# Altium footprint library Push Button_v12.PcbLib: 1 footprints
Each footprint in its own frame and in the unit in brackets; x right, y up, seen from the top. Pads: shape width x height; smd on the part's side, far side on the other; paste and mask are expansions set on the pad; w line width, h text height; cw(c..) or ccw(c..) is an arc to the next point about the centre after c.
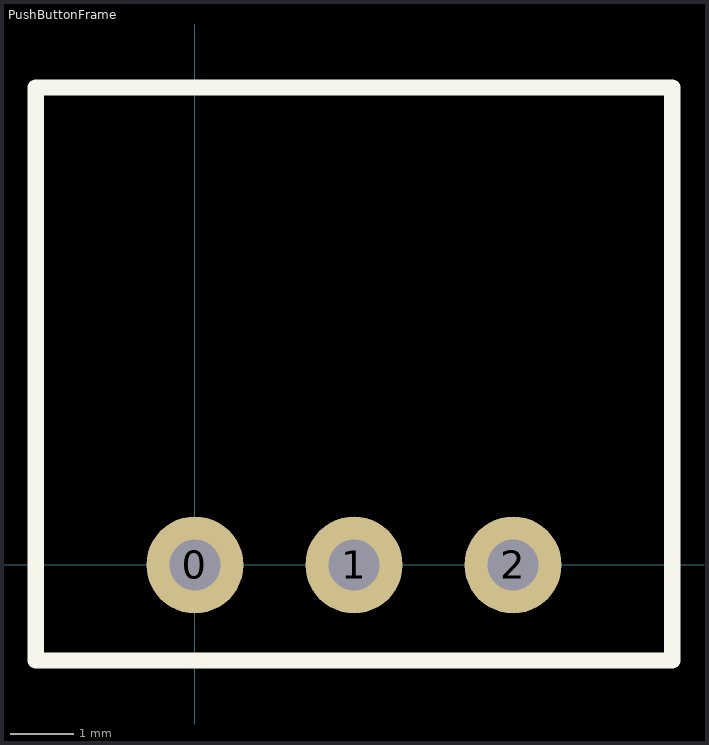
[diagram p0: the footprint, top view; thin cyan lines are the x and y axes]

## PushButtonFrame [mil]
pads (3):
  round 60 hole 31.5: 0(0,0) 1(98.43,0) 2(196.85,0)
Top Overlay:
  lines w10: -98.43,-59.06 -98.43,295.28 295.28,295.28 295.28,-59.06 -98.43,-59.06